# Altium footprint library DIP-4.PcbLib: 1 footprints
Each footprint in its own frame and in the unit in brackets; x right, y up, seen from the top. Pads: shape width x height; smd on the part's side, far side on the other; paste and mask are expansions set on the pad; w line width, h text height; cw(c..) or ccw(c..) is an arc to the next point about the centre after c.
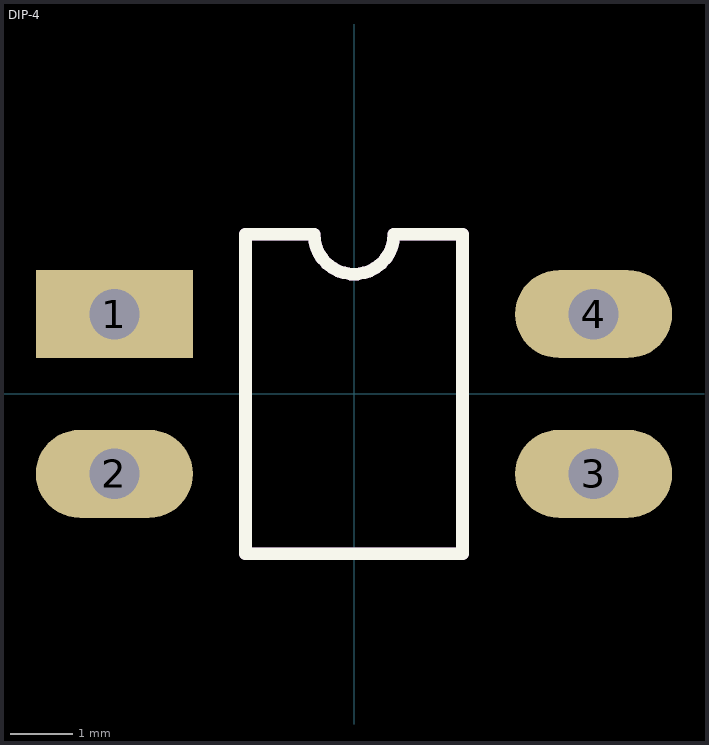
[diagram p0: the footprint, top view; thin cyan lines are the x and y axes]

## DIP-4 [mm]
pads (4):
  rect 2.5x1.4 hole 0.8: 1(-3.81,1.27)
  oval 2.5x1.4 hole 0.8: 2(-3.81,-1.27) 3(3.81,-1.27) 4(3.81,1.27)
Top Overlay:
  lines w0.2: -1.725,-2.54 1.725,-2.54 1.725,2.54 0.635,2.54 cw(c0,2.54) -0.635,2.54 -1.725,2.54 -1.725,-2.54
Mechanical 13:
  lines w0.2: -1.725,-2.54 1.725,-2.54 1.725,2.54 0.635,2.54 cw(c0,2.54) -0.635,2.54 -1.725,2.54 -1.725,-2.54
  text ".Designator" at -1.397,-0.762 h1.52
3D body: height 4.65, standoff -2.3, extent -4.4,-2.29 4.4,2.29